# EAGLE library part TXS0102 (library txs0102)
Texas Instruments: TXS0102 2-Bit Bidirectional Voltage-Level Translator for Open-Drain and Push-Pull Applications This two-bit non-inverting translator is a bidirectional voltage-level translator and can be used to establish digital switching compatibility between mixed-voltage systems. It uses two separate configurable powersupply rails, with the A ports supporting operating voltages from 1.65 V to 3.6 V while it tracks the VCCA supply, and the B ports supporting operating voltages from 2.3 V to 5.5 V while it tracks the VCCB supply. This allows the support of both lower and higher logic signal levels while providing bidirectional translation capabilities between any of the 1.8-V, 2.5-V, 3.3-V, and 5-V voltage nodes.
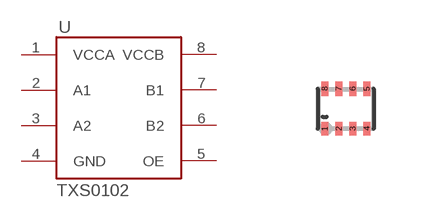
[diagram p0: symbol with the pads of PX20N8; footprint PX20N8]

Designator prefix U

## TXS0102  [PX20N8]
1  VCCA
2  A1
3  A2
4  GND
5  OE
6  B2
7  B1
8  VCCB

## Footprint PX20N8 (pad centres in mm)
smd 0.175 x 0.35: 1 -0.525,-0.5; 2 -0.175,-0.5; 3 0.175,-0.5; 4 0.525,-0.5; 5 0.525,0.5; 6 0.175,0.5; 7 -0.175,0.5; 8 -0.525,0.5